# EAGLE library part LM4780 (library texas)
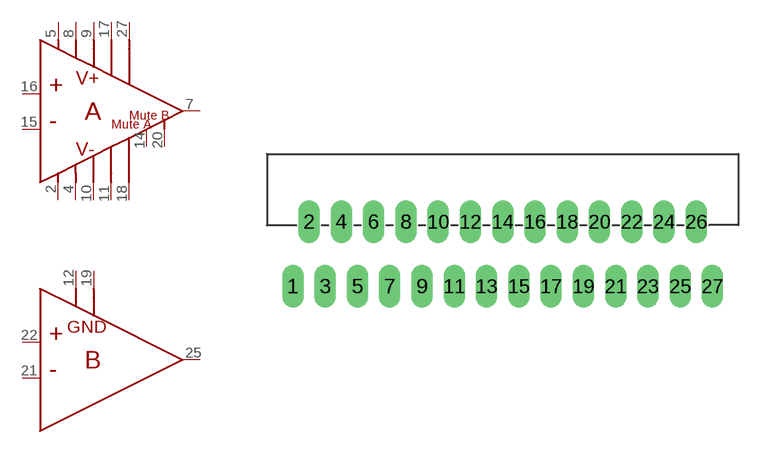
[diagram p7: symbol with the pads of TO220-27; footprint TO220-27]

Designator prefix -

## LM4780  [TO220-27]
2  2  pwr
4  4  pwr
5  5  pwr
7  7  out
8  8  pwr
9  9  pwr
10  10  pwr
11  11  pwr
12  12  pwr
14  14
15  15  in
16  16  in
17  17  pwr
18  18  pwr
19  19  pwr
20  20
21  21  in
22  22  in
25  25  out
27  27  pwr

## Footprint TO220-27 (pad centres in mm)
drill 0.813 pad 1.27 long: 1 -13,-2; 2 -12,2; 3 -11,-2; 4 -10,2; 5 -9,-2; 6 -8,2; 7 -7,-2; 8 -6,2; 9 -5,-2; 10 -4,2; 11 -3,-2; 12 -2,2; 13 -1,-2; 14 0,2; 15 1,-2; 16 2,2; 17 3,-2; 18 4,2; 19 5,-2; 20 6,2; 21 7,-2; 22 8,2; 23 9,-2; 24 10,2; 25 11,-2; 26 12,2; 27 13,-2